# Altium footprint library CAP_1uF_0603.PcbLib: 1 footprints
Each footprint in its own frame and in the unit in brackets; x right, y up, seen from the top. Pads: shape width x height; smd on the part's side, far side on the other; paste and mask are expansions set on the pad; w line width, h text height; cw(c..) or ccw(c..) is an arc to the next point about the centre after c.
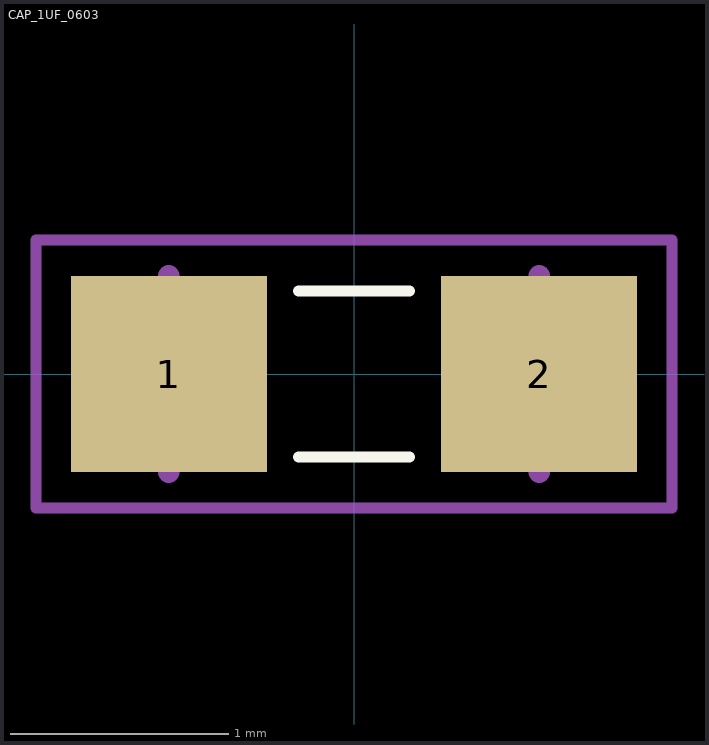
[diagram p0: the footprint, top view; thin cyan lines are the x and y axes]

## CAP_1UF_0603 [mm]
pads (2):
  rect 0.9x0.9 smd: 1(-0.85,0) 2(0.85,0)
Top Overlay:
  lines w0.05: -0.254,-0.381 0.254,-0.381 ; -0.254,0.381 0.254,0.381
Mechanical 13:
  lines w0.1: -0.85,-0.45 -0.85,0.45 ; 0.85,-0.45 0.85,0.45
Assembly Notes:
  lines w0.05: -1.46,-0.616 -1.46,0.616 1.46,0.616 1.46,-0.616 -1.46,-0.616
  text ".designator" at -1.397,-0.134 h0.64
3D body "CAP_0.1UF_0603.STEP": height 0.81, standoff 0.01, extent -0.794,-0.451 0.806,0.449